# Altium schematic symbol library TLP185(GB-TPL,SE.Schlib: 1 symbol
Pins are listed as number, name and electrical type; pins without a type are passive.

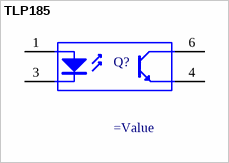
[diagram p0: symbol TLP185]

## TLP185
designator Q?
=Description
pins: 1 A "Anode", 3 K "Cathode", 4 E "Emitter", 6 C "Collector"